# Altium footprint library BLDC.PcbLib: 51 footprints (part 1 of 4)
Each footprint in its own frame and in the unit in brackets; x right, y up, seen from the top. Pads: shape width x height; smd on the part's side, far side on the other; paste and mask are expansions set on the pad; w line width, h text height; cw(c..) or ccw(c..) is an arc to the next point about the centre after c.
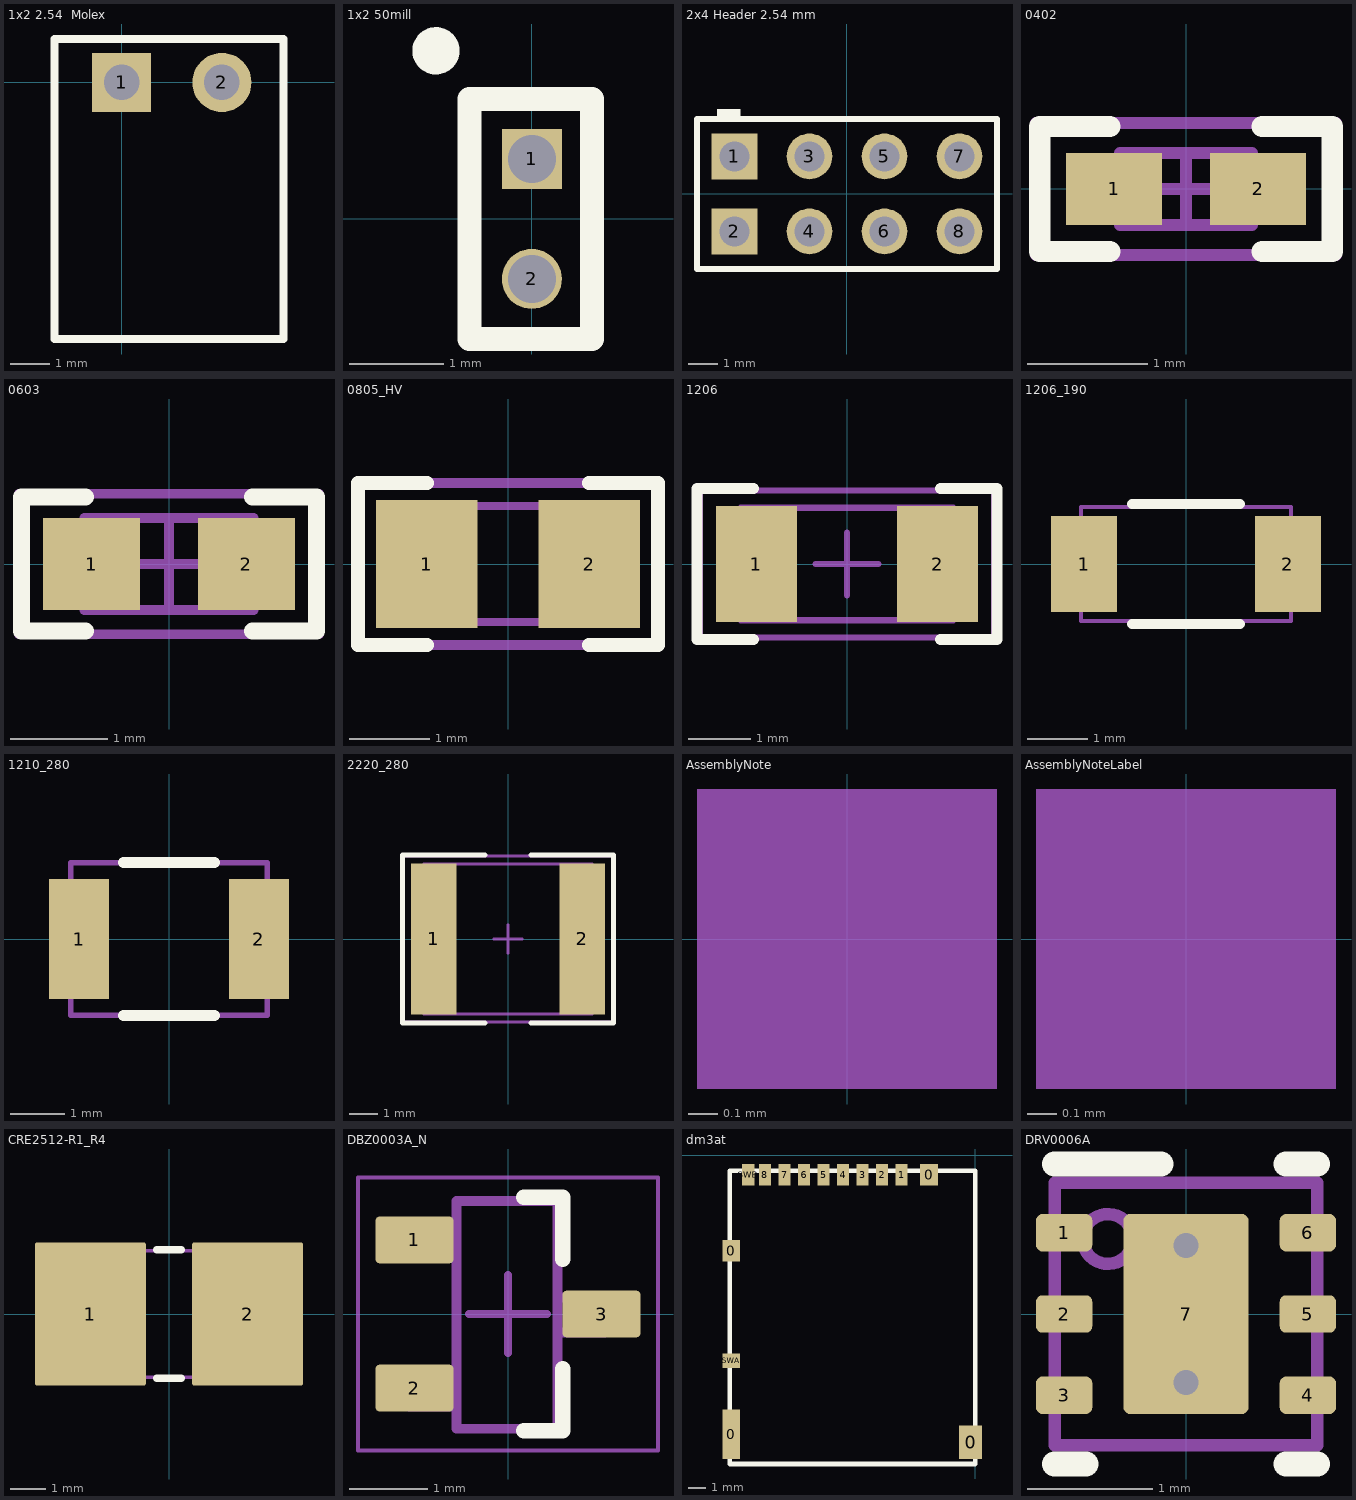
[diagram p0: the footprints below, top view; thin cyan lines are the x and y axes]

## 1x2 2.54  Molex [mm] "Connector; Header; 2 Position"
height 4
pads (2):
  rect 1.5x1.5 hole 0.9: 1(0,0)
  round 1.5 hole 0.9: 2(2.54,0)
Top Overlay:
  lines w0.2: -1.7,-6.5 4.1,-6.5 4.1,1.1 -1.7,1.1 -1.7,-6.5
3D body: height 4.91, standoff -3.85, extent -1.666,-6.51 4.1,1.11

## 1x2 50mill [mil] "50mil, 1x2, 230 mil above insulator"
height 330
pads (2):
  rect 25x25 hole 20: 1(0,25)
  round 25 hole 20: 2(0,-25)
Top Overlay:
  circle w9.84: c-39.92,70 r4.92
  lines w4: 25,-50 25,50
  lines w7.87: -10,-50 -10,-50 ; 10,50 10,50
  lines w10: -26,-50 -26,50 25,50 25,-50 -26,-50
Mechanical 5:
  lines w4: -25,-50 25,-50 25,50 -25,50 -25,-50
  text ".Designator" at -31.5,-3.94 h15
3D body: height 204.72, standoff -114.17, extent -43.3,-58.06 43.31,58.08

## 2x4 Header 2.54 mm [mm] "Header, 2.54 mm, 4x1, TH"
height 8.712
pads (8):
  rect 1.55x1.55 hole 1.016: 1(-3.81,1.27) 2(-3.81,-1.27)
  round 1.55 hole 1.016: 3(-1.27,1.27) 4(-1.27,-1.27) 5(1.27,1.27) 6(1.27,-1.27) 7(3.81,1.27) 8(3.81,-1.27)
Top Overlay:
  rectangle: -4.4,2.57 -3.6,2.87
  lines w0.2: -5.08,-2.54 -5.08,0 -5.08,2.54 5.08,2.54 5.08,0 5.08,-2.54 -5.08,-2.54
Mechanical 5:
  lines w0.1: -5.08,-2.54 5.08,-2.54 5.08,0 5.08,2.54 -5.08,2.54 -5.08,0 -5.08,-2.54
  text ".Designator" at -4.953,3.556 h1.02
3D body: height 4.5, standoff -3.15, extent -5.08,-2.54 5.08,2.54

## 0402 [mm] "0402 from SM-752 data"
height 0.6
pads (2):
  rect 0.8x0.6 smd: 1(-0.6,0) 2(0.6,0)
Top Overlay:
  lines w0.178: -0.635,-0.521 -1.219,-0.521 -1.219,0.521 -0.635,0.521 ; 0.635,-0.521 1.219,-0.521 1.219,0.521 0.635,0.521
Mechanical 5:
  lines w0.1: -1.25,-0.55 1.25,-0.55 1.25,0.55 -1.25,0.55 -1.25,-0.55
  text ".Designator" at -1.117,-0.305 h0.61
Mechanical 13:
  lines w0.1: -0.35,-0.3 -0.35,0.3 ; 0.35,-0.3 0.35,0.3 ; -0.55,-0.3 -0.55,0.3 0.55,0.3 0.55,-0.3 -0.55,-0.3
Mechanical 15:
  lines w0.1: -0.3,0 0.3,0 ; 0,-0.3 0,0.3 ; -1.25,-0.55 -1.25,0.55 1.25,0.55 1.25,-0.55 -1.25,-0.55
3D body: height 0.6, standoff 0, extent -0.549,-0.299 -0.351,0.299
3D body: height 0.6, standoff 0, extent -0.349,-0.299 0.349,0.299
3D body: height 0.6, standoff 0, extent 0.351,-0.299 0.549,0.299

## 0603 [mm] "0603 from SM-752 data"
height 1
pads (2):
  rect 1x0.95 smd: 1(-0.8,0) 2(0.8,0)
Top Overlay:
  lines w0.178: -0.864,-0.691 -1.524,-0.691 -1.524,0.693 -0.864,0.693 ; 0.864,-0.691 1.524,-0.691 1.524,0.693 0.864,0.693
Mechanical 5:
  lines w0.1: -1.55,-0.725 -1.55,0.725 1.55,0.725 1.55,-0.725 -1.55,-0.725
  text ".Designator" at -1.397,-0.381 h0.76
Mechanical 13:
  lines w0.1: -0.55,-0.475 -0.55,0.475 ; 0.55,-0.475 0.55,0.475 ; -0.875,-0.475 0.875,-0.475 0.875,0.475 -0.875,0.475 -0.875,-0.475
Mechanical 15:
  lines w0.1: -0.475,0 0.475,0 ; 0,-0.475 0,0.475 ; -1.55,-0.725 1.55,-0.725 1.55,0.725 -1.55,0.725 -1.55,-0.725
3D body: height 1, standoff 0, extent -0.874,-0.474 -0.551,0.474
3D body: height 1, standoff 0, extent -0.549,-0.474 0.549,0.474
3D body: height 1, standoff 0, extent 0.551,-0.474 0.874,0.474

## 0805_HV [mil] "0805 with 30mil clearance between pads"
height 57.09
pads (2):
  rect 50x63 smd: 1(-40,0) 2(40,0)
Top Overlay:
  lines w7: -40,-40 -74,-40 -74,0 -74,40 -40,40 ; 40,-40 74,-40 74,0 74,40 40,40
Mechanical 5:
  lines w5: -74,-40 74,-40 74,40 -74,40 -74,-40
  text ".Designator" at -64,-17 h35
Mechanical 13:
  lines w3.94: -25.59,-28.54 -25.59,28.54 ; 25.59,-28.54 25.59,28.54 ; -43.31,-28.54 43.31,-28.54 43.31,28.54 -43.31,28.54 -43.31,-28.54
3D body: height 57.09, standoff 0, extent -43.29,-28.52 -25.61,28.52
3D body: height 57.09, standoff 0, extent -25.57,-28.52 25.57,28.52
3D body: height 57.09, standoff 0, extent 25.61,-28.52 43.29,28.52

## 1206 [mm] "1206 from SM-752 data"
height 1.35
pads (2):
  rect 1.3x1.85 smd: 1(-1.45,0) 2(1.45,0)
Top Overlay:
  lines w0.178: -1.5,-1.21 -2.4,-1.21 -2.4,1.21 -1.5,1.21 ; 1.5,-1.21 2.4,-1.21 2.4,1.21 1.5,1.21
Mechanical 5:
  lines w0.1: -1.7,-0.9 1.7,-0.9 1.7,0.9 -1.7,0.9 -1.7,-0.9
  text ".Designator" at -1.475,-0.4 h0.81
Mechanical 13:
  lines w0.1: -1.2,-0.9 -1.2,0.9 ; 1.2,-0.9 1.2,0.9 ; -1.7,-0.9 1.7,-0.9 1.7,0.9 -1.7,0.9 -1.7,-0.9
Mechanical 15:
  lines w0.1: -0.5,0 0.5,0 ; 0,-0.5 0,0.5 ; -2.35,-1.175 2.35,-1.175 2.35,1.175 -2.35,1.175 -2.35,-1.175
3D body: height 1.35, standoff 0, extent -1.699,-0.899 -1.201,0.899
3D body: height 1.35, standoff 0, extent -1.199,-0.899 1.199,0.899
3D body: height 1.35, standoff 0, extent 1.201,-0.899 1.699,0.899

## 1206_190 [mm] "1206_190"
height 1.9
pads (2):
  rect 1.1x1.6 smd: 1(-1.7,0) 2(1.7,0)
Top Overlay:
  lines w0.17: -0.9,-1 0.9,-1 ; -0.9,1 0.9,1
Mechanical 5:
  lines w0.07: -1.75,-0.95 -1.75,0.95 1.75,0.95 1.75,-0.95 -1.75,-0.95
  text ".Designator" at -1.5,-0.4 h0.64
3D body: height 1.9, standoff 0, extent 1.301,-0.949 1.749,0.949
3D body: height 1.9, standoff 0, extent -1.299,-0.949 1.299,0.949
3D body: height 1.9, standoff 0, extent -1.749,-0.949 -1.301,0.949

## 1210_280 [mm] "SMD, 2-Leads, Body 3.6x2.8mm, Height 2.8mm"
height 2.8
pads (2):
  rect 1.1x2.2 smd: 1(-1.65,0) 2(1.65,0)
Top Overlay:
  lines w0.2: -0.835,-1.4 0.835,-1.4 ; -0.835,1.4 0.835,1.4
Mechanical 5:
  lines w0.1: -1.8,-1.4 1.8,-1.4 1.8,1.4 -1.8,1.4 -1.8,-1.4
  text ".Designator" at -1.6,-0.5 h0.8
3D body: height 2.8, standoff 0, extent 1.6,-1.4 1.8,1.4
3D body: height 2.8, standoff 0, extent -1.6,-1.4 1.6,1.4
3D body: height 2.8, standoff 0, extent -1.8,-1.4 -1.6,1.4

## 2220_280 [mm] "Chip Capacitor, Body 5.7x5.0mm, IPC Medium Density"
height 2.8
pads (2):
  rect 1.6x5.3 smd: 1(-2.6,0) 2(2.6,0)
Top Overlay:
  lines w0.178: -0.811,-2.939 -3.693,-2.939 -3.693,2.939 -0.811,2.939 ; 0.811,-2.939 3.693,-2.939 3.693,2.939 0.811,2.939
Mechanical 5:
  lines w0.1: -2.95,-2.625 -2.95,2.625 2.95,2.625 2.95,-2.625 -2.95,-2.625
  text ".Designator" at -1.875,-0.5 h1.02
Mechanical 13:
  lines w0.1: -2.75,-2.625 -2.75,2.625 ; 2.75,-2.625 2.75,2.625 ; -2.95,-2.625 2.95,-2.625 2.95,2.625 -2.95,2.625 -2.95,-2.625
Mechanical 15:
  lines w0.1: -0.5,0 0.5,0 ; 0,-0.5 0,0.5 ; -3.65,-2.9 3.65,-2.9 3.65,2.9 -3.65,2.9 -3.65,-2.9
3D body: height 2.8, standoff 0, extent 2.751,-2.624 2.949,2.624
3D body: height 2.8, standoff 0, extent -2.749,-2.624 2.749,2.624
3D body: height 2.8, standoff 0, extent -2.949,-2.624 -2.751,2.624

## AssemblyNote [mm] "Assembly Note"
height 1.905
Mechanical 5:
  rectangle: -0.508,-0.508 0.508,0.508
  text ".Comment" at -0.279,-1.016 h0.64

## AssemblyNoteLabel [mm] "Assembly Note for PCB Labels"
height 8.382
Mechanical 5:
  rectangle: -0.508,-0.508 0.508,0.508
  text "Install label in silkscreened box after final wash.  Text shall be 8 pt font.  Text shall be per the Label Table in the PDF schematic." at 1.143,-0.508 h0.64
  text ".Designator" at -4.191,-0.508 h0.64

## CRE2512-R1_R4 [mm] "SMD, 2-Leads, Body 6.45x3.35mm"
height 0.9
pads (2):
  rrect3% 3.1x4 smd: 1(-2.2,0) 2(2.2,0)
Top Overlay:
  lines w0.2: -0.35,-1.8 0.35,-1.8 ; -0.35,1.8 0.35,1.8
Mechanical 5:
  lines w0.1: -3.325,-1.775 3.325,-1.775 3.325,1.775 -3.325,1.775 -3.325,-1.775
  text ".Designator" at -1.2,-0.4 h1.5
3D body: height 0.9, standoff 0, extent -3.325,-1.775 3.325,1.775

## DBZ0003A_N [mm] "SOT23, 3-Leads, Body 2.9x1.3mm, Pitch 0.95mm, Lead Span 2.4mm, IPC Medium Density"
height 1.12
pads (3):
  rrect17% 1x0.6 smd: 1(-1.2,0.95) 2(-1.2,-0.95) 3(1.2,0)
Top Overlay:
  lines w0.2: 0.2,-1.5 0.7,-1.5 0.7,-0.7 ; 0.2,1.5 0.7,1.5 0.7,0.7
Mechanical 5:
  lines w0.127: -1.27,-1.187 -1.27,-0.743 -1.063,-0.743 -1.005,-0.743 -0.814,-0.743 -0.66,-0.743 -0.66,-1.187 -0.814,-1.187 -1.005,-1.187 -1.063,-1.187 -1.27,-1.187 ; -1.27,0.718 -1.27,1.162 -1.063,1.162 -1.005,1.162 -0.814,1.162 -0.66,1.162 -0.66,0.718 -0.814,0.718 -1.005,0.718 -1.063,0.718 -1.27,0.718 ; -0.66,-1.473 -0.66,1.448 0.635,1.448 0.635,-1.473 -0.66,-1.473 ; 0.635,-0.235 0.789,-0.235 0.98,-0.235 1.037,-0.235 1.245,-0.235 1.245,0.21 1.037,0.21 0.98,0.21 0.789,0.21 0.635,0.21 0.635,-0.235
  text ".Designator" at -0.254,0.889 h0.51
Mechanical 15:
  lines w0.05: -1.925,-1.75 1.925,-1.75 1.925,1.75 -1.925,1.75 -1.925,-1.75
  lines w0.1: -0.5,0 0.5,0 ; 0,-0.5 0,0.5
3D body: height 0.98, standoff 0, extent -1.257,-1.46 1.257,1.461

## dm3at [mm]
pads (14):
  rect 1x2.8 smd: 0(-13.77,-15.73)
  rect 1x1.2 smd: 0(-13.77,-5.38) 0(-2.62,-1.08)
  rect 1.3x1.9 smd: 0(-0.27,-16.18)
  rect 0.7x1.2 smd: 1(-4.17,-1.08) 2(-5.27,-1.08) 3(-6.37,-1.08) 4(-7.47,-1.08) 5(-8.57,-1.08) 6(-9.67,-1.08) 7(-10.77,-1.08) 8(-11.87,-1.08) SWB(-12.82,-1.08)
  rect 1x0.8 smd: SWA(-13.77,-11.58)
Top Overlay:
  lines w0.254: -13.85,-17.4 -13.85,-0.87 0,-0.87 0,-17.4 -13.85,-17.4
3D body: height 1.68, standoff 0, extent -13.88,-17.105 -0.03,-0.955

## DRV0006A [mm] "SON, 6-Leads, Body 2x2mm, Pitch 0.65mm, Thermal Pad 1.6x1mm, TI Recommended"
height 0.8
pads (7):
  rrect33% 0.45x0.3 smd: 1(-0.975,0.65) 2(-0.975,0) 3(-0.975,-0.65) 4(0.975,-0.65) 5(0.975,0) 6(0.975,0.65)
  rrect10% 1x1.6 smd paste-0.5: 7(0,0)
via 0,0.55 diameter 0.5 hole 0.2
via 0,-0.55 diameter 0.5 hole 0.2
Top Overlay:
  lines w0.2: -1.05,-1.2 -0.8,-1.2 ; -1.05,1.2 -0.2,1.2 ; 0.8,-1.2 1.05,-1.2 ; 0.8,1.2 1.05,1.2
Top Paste:
  region: 0.475,-0.733 0.475,0.733 -0.474,0.733 -0.474,-0.733
Mechanical 5:
  circle w0.1: c-0.625,0.6 r0.2
  lines w0.1: -1.05,-1.05 -1.05,1.05 1.05,1.05 1.05,-1.05 -1.05,-1.05
  text ".Designator" at -0.9,-0.5 h0.51
3D body: height 0.8, standoff 0, extent -1.05,-1.05 1.05,1.05
3D body: height 0.81, standoff 0.5, extent -0.828,0.397 -0.422,0.803